# Altium footprint library Optocoupler_Pcb.PcbLib: 2 footprints
Each footprint in its own frame and in the unit in brackets; x right, y up, seen from the top. Pads: shape width x height; smd on the part's side, far side on the other; paste and mask are expansions set on the pad; w line width, h text height; cw(c..) or ccw(c..) is an arc to the next point about the centre after c.
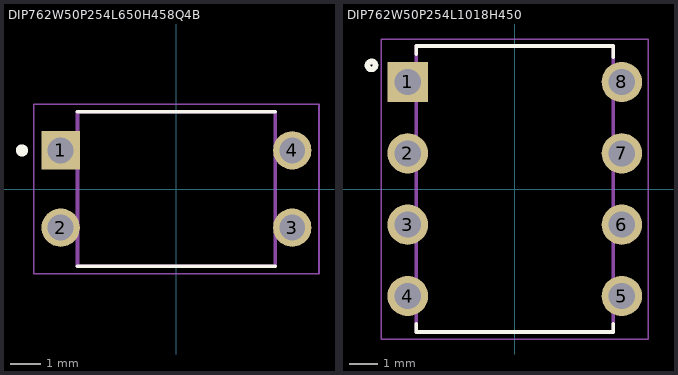
[diagram p0: the footprints below, top view; thin cyan lines are the x and y axes]

## DIP762W50P254L650H458Q4B [mm]
pads (4):
  rect 1.26x1.26 hole 0.85: 1(-3.81,1.27)
  round 1.26 hole 0.85: 2(-3.81,-1.27) 3(3.81,-1.27) 4(3.81,1.27)
Top Overlay:
  circle w0.2: c-5.08,1.27 r0.1
  lines w0.127: -3.25,-2.54 3.25,-2.54 ; -3.25,2.54 3.25,2.54
Mechanical 13:
  lines w0.127: -3.25,-2.54 3.25,-2.54 3.25,2.54 -3.25,2.54 -3.25,-2.54
Mechanical 15:
  lines w0.05: -4.69,-2.79 -4.69,2.79 4.69,2.79 4.69,-2.79 -4.69,-2.79
3D body "PC817A--3DModel-STEP-56544.STEP": height 4.01, standoff -4.09, extent -3.94,-2.29 3.94,2.29

## DIP762W50P254L1018H450 [mm]
pads (8):
  rect 1.438x1.438 hole 0.93: 1(-3.81,3.81)
  round 1.438 hole 0.93: 2(-3.81,1.27) 3(-3.81,-1.27) 4(-3.81,-3.81) 5(3.81,-3.81) 6(3.81,-1.27) 7(3.81,1.27) 8(3.81,3.81)
Top Overlay:
  circle w0.2: c-5.1,4.4 r0.141
  lines w0.127: -3.5,-4.8 -3.5,-5.09 3.5,-5.09 3.5,-4.8 ; -3.5,4.8 -3.5,5.09 1.016,5.09 3.5,5.09 3.5,4.7
Mechanical 4:
  lines w0.127: -3.5,-5.09 -3.5,5.09 ; -3.5,-5.09 3.5,-5.09 ; -3.5,-5.09 -3.5,5.09 ; -3.5,-5.09 3.5,-5.09 ; -3.5,5.09 3.5,5.09 ; -3.5,5.09 3.5,5.09 ; 3.5,-5.09 3.5,5.09 ; 3.5,-5.09 3.5,5.09
Mechanical 16:
  lines w0.05: -4.76,-5.34 4.76,-5.34 4.76,5.34 -4.76,5.34 -4.76,-5.34
3D body "TLP250-F---3DModel-STEP-56544.STEP": height 4.48, standoff -2.87, extent -4.287,-4.83 4.287,4.83